# Altium footprint library FW30A10R0JA.PcbLib: 1 footprints
Each footprint in its own frame and in the unit in brackets; x right, y up, seen from the top. Pads: shape width x height; smd on the part's side, far side on the other; paste and mask are expansions set on the pad; w line width, h text height; cw(c..) or ccw(c..) is an arc to the next point about the centre after c.
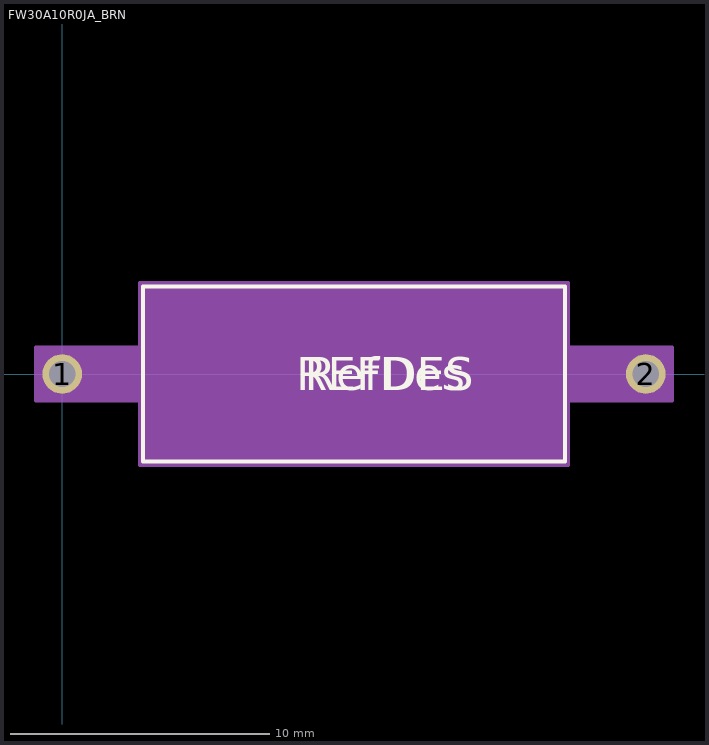
[diagram p0: the footprint, top view; thin cyan lines are the x and y axes]

## FW30A10R0JA_BRN [mil]
pads (2):
  round 60 hole 40 paste-30 mask+0: 1(0,0) 2(885.83,0)
Top Overlay:
  lines w6: 122.91,-133 762.91,-133 762.91,133 122.91,133 122.91,-133
  text "RefDes" at 367.91,-25 h50
  text "REFDES" at 355.41,-25 h50
Mechanical 13:
  circle w0: c137.91,0 r0
  lines w1: 0,0 127.91,0 ; 757.91,0 885.83,0 ; 127.91,-128 757.91,-128 757.91,128 127.91,128 127.91,-128
  text "RefDes2" at 355.41,-25 h50
Mechanical 15:
  region: 117.91,-40 -40,-40 -40,40 117.91,40 117.91,138 767.91,138 767.91,40 925.83,40 925.83,-40 767.91,-40 767.91,-138 117.91,-138
  lines w6: -40,-40 -40,40 117.91,40 117.91,138 767.91,138 767.91,40 925.83,40 925.83,-40 767.91,-40 767.91,-138 117.91,-138 117.91,-40 -40,-40
3D body "FW30A10R0JA_BRN.step": height 256.06, standoff -100, extent -15,-128.1 900.83,128.1